# Altium footprint library UserPcbLib.PcbLib: 107 footprints (part 4 of 7)
Each footprint in its own frame and in the unit in brackets; x right, y up, seen from the top. Pads: shape width x height; smd on the part's side, far side on the other; paste and mask are expansions set on the pad; w line width, h text height; cw(c..) or ccw(c..) is an arc to the next point about the centre after c.
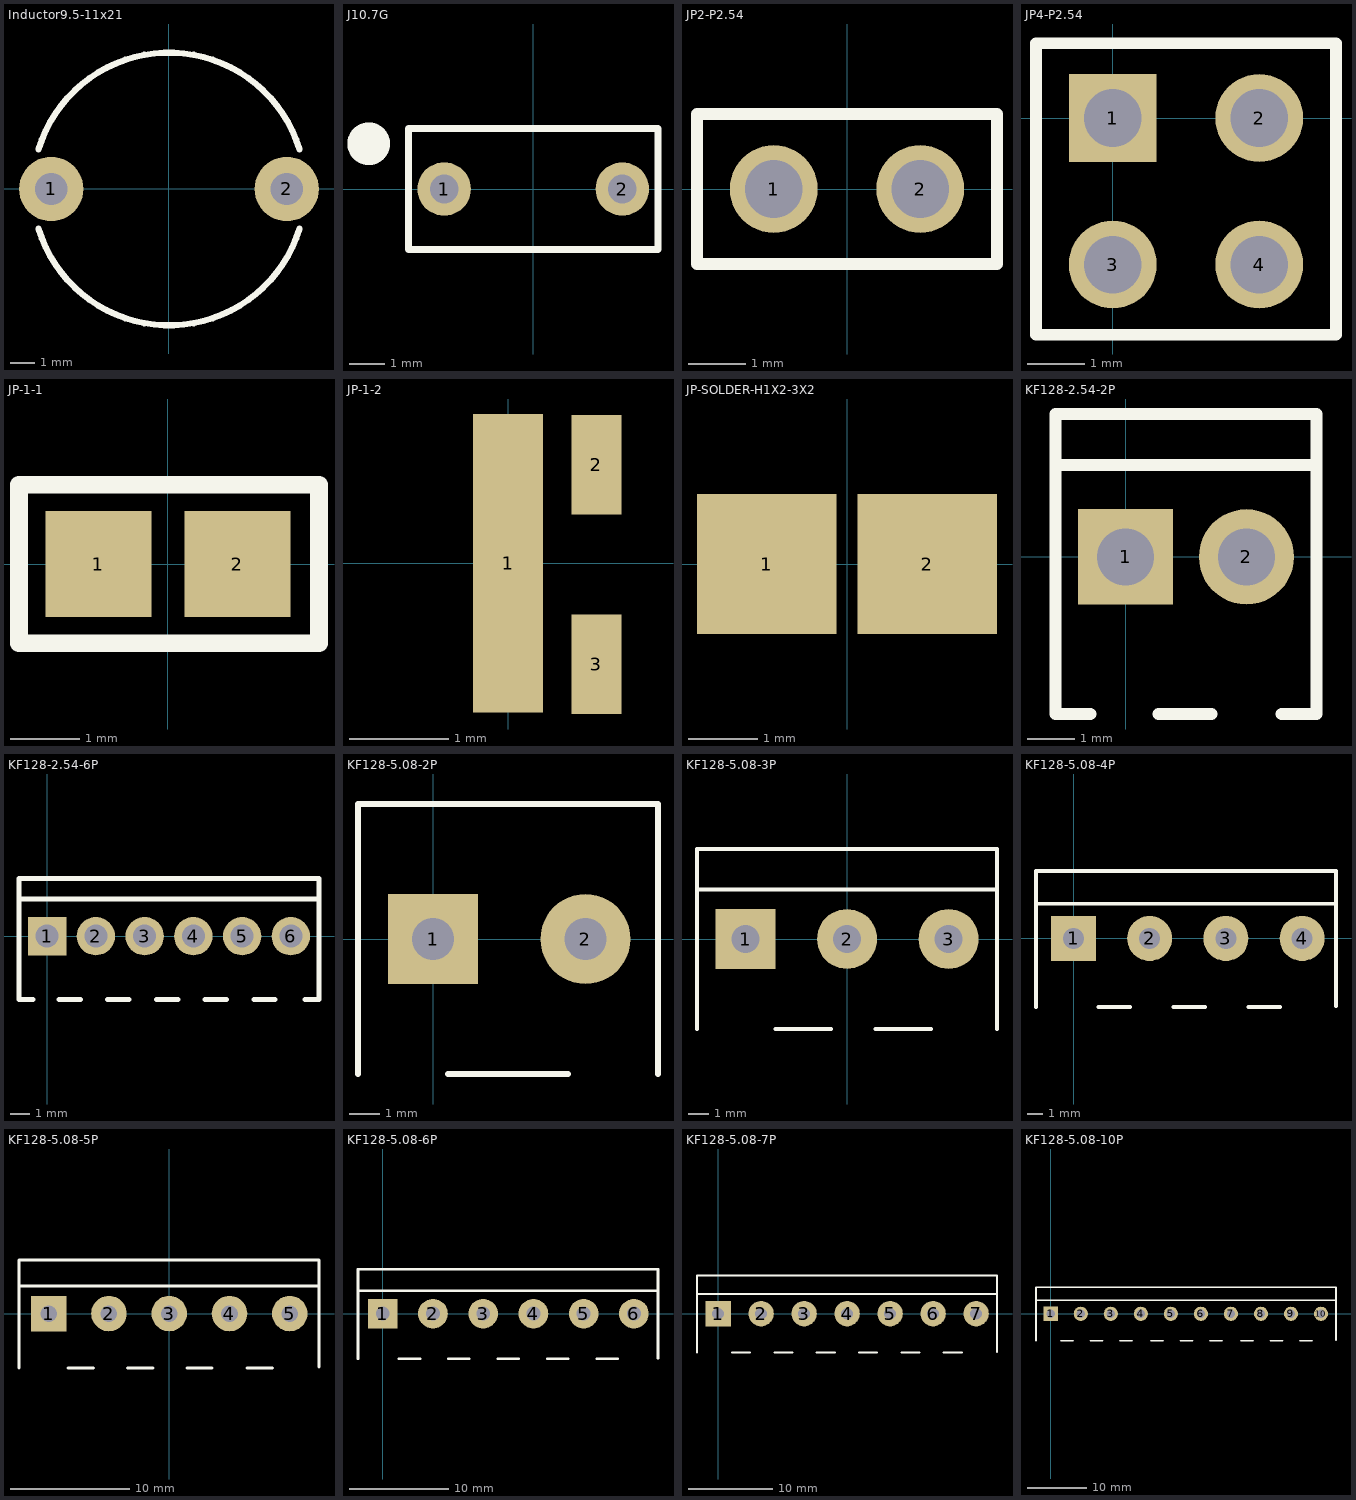
[diagram p3: the footprints below, top view; thin cyan lines are the x and y axes]

## Inductor9.5-11x21 [mm] "Radial type inductor"
height 21
pads (2):
  round 2.6 hole 1.3: 1(-4.75,0) 2(4.75,0)
Top Overlay:
  lines w0.254: -5.26,-1.608 ccw(c0,0) 5.26,-1.608 ; -5.26,1.608 cw(c0,0) 5.26,1.608
3D body: height 21.1, standoff 0.1, extent -5.461,-5.486 5.496,5.492

## J10.7G [mm] "Ceramic discriminator 10.7MHz"
pads (2):
  round 1.5 hole 0.8: 1(-2.5,0) 2(2.5,0)
Top Overlay:
  circle w0.6: c-4.618,1.27 r0.3
  lines w0.2: -3.5,-1.7 3.5,-1.7 3.5,1.7 -3.5,1.7 -3.5,-1.7

## JP2-P2.54 [mil] "2-pin jumper P2.54"
pads (2):
  round 60 hole 39.37: 1(-50,0) 2(50,0)
Top Overlay:
  lines w7.87: -102.36,-51.18 102.36,-51.18 102.36,51.18 -102.36,51.18 -102.36,-51.18
3D body: height 318.5, standoff -126.38, extent -100.39,-50 100.39,50

## JP4-P2.54 [mil] "4-pin jumper P2.54"
pads (4):
  rect 60x60 hole 39.37: 1(0,0)
  round 60 hole 39.37: 2(100,0) 3(0,-100) 4(100,-100)
Top Overlay:
  lines w7.87: -52.36,-148 -52.36,51.18 152.36,51.18 152.36,-148 -52.36,-148
3D body: height 318.5, standoff -126.38, extent -50.39,-150 150.39,-50
3D body: height 318.5, standoff -126.38, extent -50.39,-50 150.39,50

## JP-1-1 [mil] "2 points jumper"
pads (2):
  rect 60x60 smd: 1(-39.37,0) 2(39.37,0)
Top Overlay:
  lines w10: -84.37,-45 85.63,-45 85.63,45 -84.37,45 -84.37,-45
3D body: height 19.68, standoff 0, extent -73.37,-34 73.37,34

## JP-1-2 [mm]
pads (3):
  rect 0.7x3 smd: 1(0,0)
  rect 0.5x1 smd: 2(0.889,0.991) 3(0.889,-1.016)

## JP-SOLDER-H1X2-3X2 [mm]
pads (2):
  rect 2x2 smd: 1(-1.15,0) 2(1.15,0)

## KF128-2.54-2P [mm]
pads (2):
  rect 2x2 hole 1.2: 1(0,0)
  round 2 hole 1.2: 2(2.54,0)
Top Overlay:
  lines w0.254: -1.47,1.932 4.01,1.932 ; -0.74,-3.3 -1.47,-3.3 -1.47,3 4.01,3 4.01,-3.3 3.28,-3.3 ; 0.689,-3.3 1.806,-3.3

## KF128-2.54-6P [mm]
pads (6):
  rect 2x2 hole 1.2: 1(0,0)
  round 2 hole 1.2: 2(2.54,0) 3(5.08,0) 4(7.62,0) 5(10.16,0) 6(12.7,0)
Top Overlay:
  lines w0.254: -1.47,1.932 14.17,1.932 ; -0.74,-3.3 -1.47,-3.3 -1.47,3 14.17,3 14.17,-3.3 13.44,-3.3 ; 0.613,-3.3 1.73,-3.3 ; 3.153,-3.3 4.27,-3.3 ; 5.693,-3.3 6.81,-3.3 ; 8.233,-3.3 9.35,-3.3 ; 10.773,-3.3 11.89,-3.3

## KF128-5.08-2P [mm]
height 14
pads (2):
  rect 3x3 hole 1.4: 1(0,0)
  round 3 hole 1.4: 2(5.08,0)
Top Overlay:
  lines w0.2: -2.5,-4.5 -2.5,4.5 7.5,4.5 7.5,-4.5 ; 0.5,-4.5 4.5,-4.5
3D body: height 14, standoff 0.1, extent -2.489,-4.521 7.518,4.47

## KF128-5.08-3P [mm]
height 14
pads (3):
  rect 3x3 hole 1.4: 1(-5.08,0)
  round 3 hole 1.4: 2(0,0) 3(5.08,0)
Top Overlay:
  lines w0.2: -7.508,2.466 7.493,2.466 ; -7.5,-4.5 -7.5,4.5 7.5,4.5 7.5,-4.5 ; -3.581,-4.5 -0.813,-4.5 ; 1.419,-4.5 4.187,-4.5
3D body: height 14, standoff 0.1, extent -7.518,-4.547 7.544,4.496

## KF128-5.08-4P [mm]
height 14
pads (4):
  rect 3x3 hole 1.4: 1(0,0)
  round 3 hole 1.4: 2(5.08,0) 3(10.16,0) 4(15.24,0)
Top Overlay:
  lines w0.254: -2.5,-4.572 -2.5,4.5 17.5,4.5 17.5,-4.5 ; -2.5,2.311 17.475,2.311 ; 1.647,-4.572 3.773,-4.572 ; 6.647,-4.572 8.773,-4.572 ; 11.647,-4.572 13.773,-4.572
3D body: height 14, standoff 0.1, extent -2.515,-4.572 17.475,4.445

## KF128-5.08-5P [mm]
height 14
pads (5):
  rect 3x3 hole 1.4: 1(-10.16,0)
  round 3 hole 1.4: 2(-5.08,0) 3(0,0) 4(5.08,0) 5(10.16,0)
Top Overlay:
  lines w0.254: -12.66,-4.572 -12.66,4.5 12.624,4.5 12.624,-4.5 ; -12.66,2.311 12.624,2.311 ; -8.513,-4.572 -6.387,-4.572 ; -3.513,-4.572 -1.387,-4.572 ; 1.487,-4.572 3.613,-4.572 ; 6.567,-4.572 8.693,-4.572
3D body: height 14, standoff 0.1, extent -12.649,-4.597 12.649,4.496

## KF128-5.08-6P [mm]
height 14
pads (6):
  rect 3x3 hole 1.4: 1(0,0)
  round 3 hole 1.4: 2(5.08,0) 3(10.16,0) 4(15.24,0) 5(20.32,0) 6(25.4,0)
Top Overlay:
  lines w0.254: -2.5,-4.572 -2.5,4.5 27.838,4.5 27.838,-4.5 ; -2.5,2.311 27.838,2.311 ; 1.647,-4.572 3.773,-4.572 ; 6.647,-4.572 8.773,-4.572 ; 11.647,-4.572 13.773,-4.572 ; 16.647,-4.572 18.773,-4.572 ; 21.647,-4.572 23.773,-4.572
3D body: height 14, standoff 0.1, extent -2.489,-4.597 27.889,4.521

## KF128-5.08-7P [mm]
height 14
pads (7):
  rect 3x3 hole 1.4: 1(0,0)
  round 3 hole 1.4: 2(5.08,0) 3(10.16,0) 4(15.24,0) 5(20.32,0) 6(25.4,0) 7(30.48,0)
Top Overlay:
  lines w0.254: -2.5,-4.572 -2.5,4.5 32.944,4.5 32.944,-4.5 ; -2.5,2.311 32.944,2.311 ; 1.647,-4.572 3.773,-4.572 ; 6.647,-4.572 8.773,-4.572 ; 11.647,-4.572 13.773,-4.572 ; 16.647,-4.572 18.773,-4.572 ; 21.647,-4.572 23.773,-4.572 ; 26.647,-4.572 28.773,-4.572
3D body: height 14, standoff 0.1, extent -2.515,-4.496 32.969,4.521

## KF128-5.08-10P [mm]
height 14
pads (10):
  rect 2.4x2.4 hole 1.4: 1(0,0)
  round 2.4 hole 1.4: 2(5.08,0) 3(10.16,0) 4(15.24,0) 5(20.32,0) 6(25.4,0) 7(30.48,0) 8(35.56,0) 9(40.64,0) 10(45.72,0)
Top Overlay:
  lines w0.254: -2.5,-4.572 -2.5,4.5 48.26,4.5 48.26,-4.5 ; -2.5,2.311 48.209,2.311 ; 1.647,-4.572 3.773,-4.572 ; 6.647,-4.572 8.773,-4.572 ; 11.647,-4.572 13.773,-4.572 ; 16.887,-4.572 19.013,-4.572 ; 21.887,-4.572 24.013,-4.572 ; 26.887,-4.572 29.013,-4.572 ; 32.127,-4.572 34.253,-4.572 ; 37.127,-4.572 39.253,-4.572 ; 42.127,-4.572 44.253,-4.572
3D body: height 14, standoff 0.1, extent -2.565,-4.547 48.285,4.521